# EAGLE library part TMP007 (library My_TI)
TMP007 edit this description Auto generated by make-symbol-device-package-bsdl.ulp Rev. 43 Source: TMP007.txt
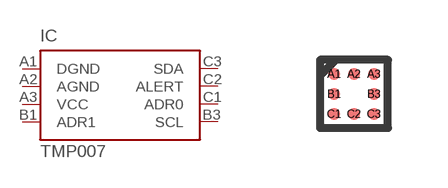
[diagram p4: symbol with the pads of XBGA8; footprint XBGA8]

Designator prefix IC

## TMP007  [XBGA8]
A1  DGND  pwr
A2  AGND  pwr
A3  VCC  pwr
B1  ADR1
B3  SCL
C1  ADR0
C2  ALERT
C3  SDA

## Footprint XBGA8 (pad centres in mm)
TMP007 edit this description Auto generated by make-symbol-device-package-bsdl.ulp Rev. 43 Source: TMP007.txt
smd 0.3 x 0.3: A1 -0.5,0.5; A2 0,0.5; A3 0.5,0.5; B1 -0.5,0; B3 0.5,0; C1 -0.5,-0.5; C2 0,-0.5; C3 0.5,-0.5